# Altium footprint library BH1750FVI_.PcbLib: 1 footprints
Each footprint in its own frame and in the unit in brackets; x right, y up, seen from the top. Pads: shape width x height; smd on the part's side, far side on the other; paste and mask are expansions set on the pad; w line width, h text height; cw(c..) or ccw(c..) is an arc to the next point about the centre after c.
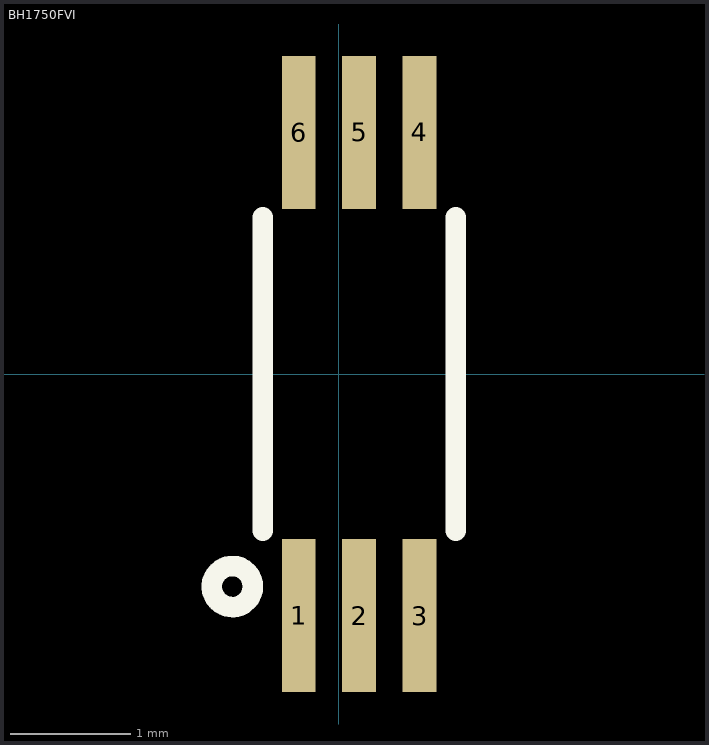
[diagram p0: the footprint, top view; thin cyan lines are the x and y axes]

## BH1750FVI [mm]
pads (6):
  rect 0.28x1.27 smd: 1(-0.333,-2) 2(0.168,-2) 3(0.667,-2) 4(0.667,2) 5(0.167,2) 6(-0.333,2)
Top Overlay:
  circle w0.17: c-0.883,-1.76 r0.17
  lines w0.17: -0.633,-1.3 -0.633,1.3 ; 0.967,-1.3 0.967,-1.3 0.967,1.3